# EAGLE library part TPIC6B595DW (library NEWARK)
Power Logic 8-Bit Shift Register
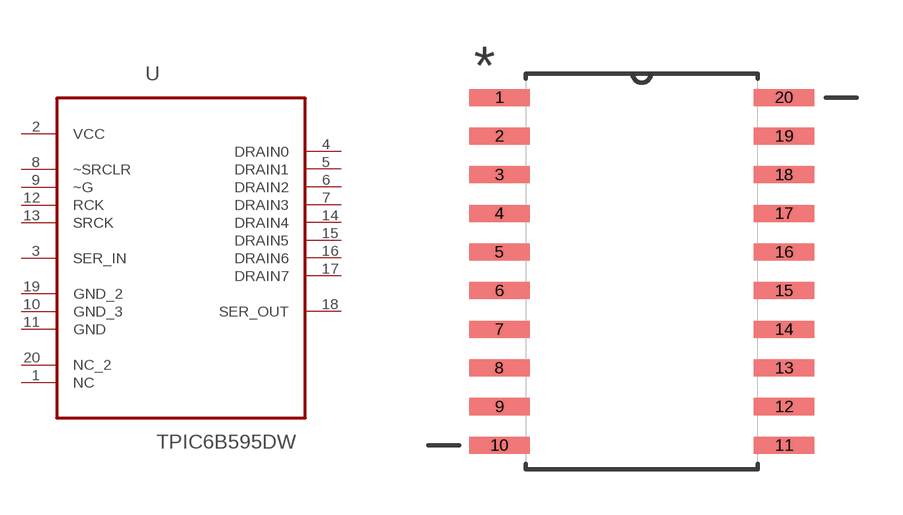
[diagram p0: symbol with the pads of SOIC127P1030X265-20N; footprint SOIC127P1030X265-20N]

Designator prefix U

## TPIC6B595DWSOIC20 (MPN: TPIC6B595DW; OC_FARNELL: 1491696; OC_NEWARK: 52F2783; PACKAGE: SOIC-20; SUPPLIER: Texas Instruments)  [SOIC127P1030X265-20N]
1  NC  nc
2  VCC  pwr
3  SER_IN  in
4  DRAIN0  out
5  DRAIN1  out
6  DRAIN2  out
7  DRAIN3  out
8  ~SRCLR  in
9  ~G  in
10  GND_3  pas
11  GND  pas
12  RCK  in
13  SRCK  in
14  DRAIN4  out
15  DRAIN5  out
16  DRAIN6  out
17  DRAIN7  out
18  SER_OUT  out
19  GND_2  pas
20  NC_2  nc

## Footprint SOIC127P1030X265-20N (pad centres in mm)
smd 1.981 x 0.559: 1 -4.674,5.715; 2 -4.674,4.445; 3 -4.674,3.175; 4 -4.674,1.905; 5 -4.674,0.635; 6 -4.674,-0.635; 7 -4.674,-1.905; 8 -4.674,-3.175; 9 -4.674,-4.445; 10 -4.674,-5.715; 11 4.674,-5.715; 12 4.674,-4.445; 13 4.674,-3.175; 14 4.674,-1.905; 15 4.674,-0.635; 16 4.674,0.635; 17 4.674,1.905; 18 4.674,3.175; 19 4.674,4.445; 20 4.674,5.715